# EAGLE library part KOLOSY_TPS56X200 (library boat6)
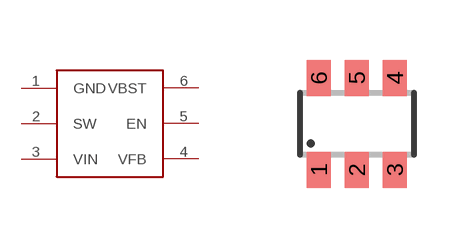
[diagram p6: symbol with the pads of KOLOSY_SOT23-6; footprint KOLOSY_SOT23-6]

Designator prefix -

## KOLOSY_TPS56X200  [KOLOSY_SOT23-6]
1  GND
2  SW
3  VIN
4  VFB
5  EN
6  VBST

## Footprint KOLOSY_SOT23-6 (pad centres in mm)
Small Outline Transistor 6 lead
smd 0.6 x 0.9: 1 -0.95,-1.15; 2 0,-1.15; 3 0.95,-1.15; 4 0.95,1.15; 5 0,1.15; 6 -0.95,1.15